# EAGLE library part OPA2227 (library texas-instruments-jqi)
OPA2227U, dual precision op-amp, replaces OP27, LT1007, MAX427
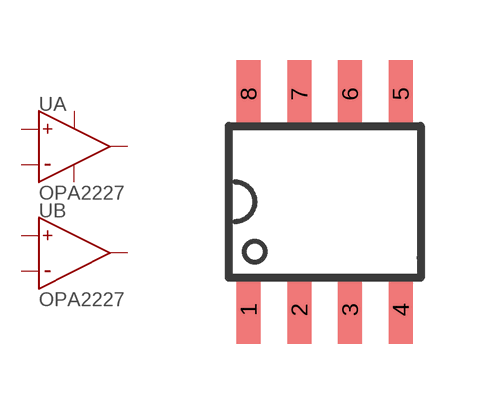
[diagram p3: symbol with the pads of SO-08; footprint SO-08]

Designator prefix U; gates S=OPAMP-SUPPLY A=OPAMP B=OPAMP

## OPA2227U  [SO-08]
1  A:OUTPUT  out
2  A:-  in
3  A:+  in
4  S:V-  pwr
5  B:+  in
6  B:-  in
7  B:OUTPUT  out
8  S:V+  pwr

## Footprint SO-08 (pad centres in mm)
Small Outline Narrow Plastic Gull Wing 150-mil body, package type SN
smd 0.6 x 1.7: 1 -1.905,-2.7; 2 -0.635,-2.7; 3 0.635,-2.7; 4 1.905,-2.7; 5 1.905,2.7; 6 0.635,2.7; 7 -0.635,2.7; 8 -1.905,2.7